# EAGLE library part ADAFRUIT_GPS (library SSI)
Adafruit Ultimate GPS Breakout V3 No guarantees. Use at own risk.
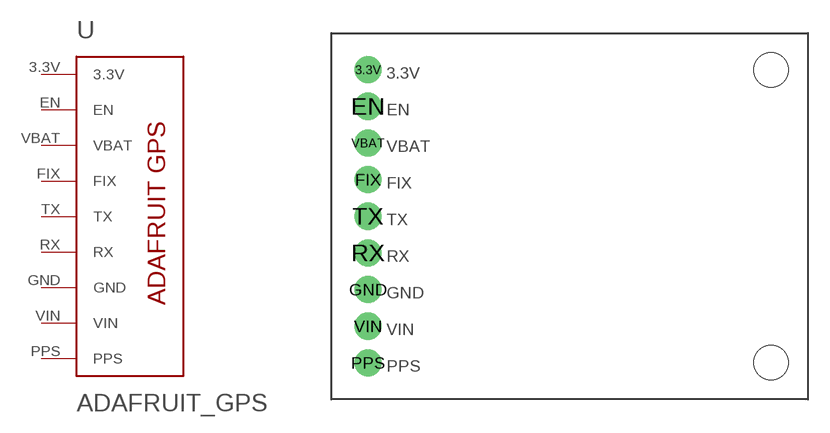
[diagram p0: symbol with the pads of ADAFRUIT_GPS; footprint ADAFRUIT_GPS]

Designator prefix -

## ADAFRUIT_GPS  [ADAFRUIT_GPS]
3.3V  3.3V
EN  EN
FIX  FIX
GND  GND
PPS  PPS
RX  RX
TX  TX
VBAT  VBAT
VIN  VIN

## Footprint ADAFRUIT_GPS (pad centres in mm)
Adafruit's Ultimate GPS Breakout v3 No promises regarding hole/pin placement. Use at own risk.
drill 1.016 pad 1.88: 3.3V -8.89,10.16; EN -8.89,7.62; FIX -8.89,2.54; GND -8.89,-5.08; PPS -8.89,-10.16; RX -8.89,-2.54; TX -8.89,0; VBAT -8.89,5.08; VIN -8.89,-7.62
hole 2.388 at 19.05,10.16
hole 2.388 at 19.05,-10.16